# Altium schematic symbol library TLV2771CDBVR.SchLib: 2 symbols
Pins are listed as number, name and electrical type; pins without a type are passive.

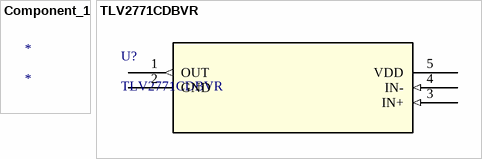
[diagram p0: symbols Component_1 to TLV2771CDBVR]

## Component_1
designator *

## TLV2771CDBVR
designator U?
No Description Available; Mfr_Name: Texas Instruments; Copyright: Copyright (C) 2022 Ultra Librarian. All rights reserved.; Manufacturer_Part_Number: TLV2771CDBVR; RefDes: RefDes; Type: DEV
footprint DBV5
pins: 1 OUT (out), 2 GND (power), 3 IN+ (in), 4 IN- (in), 5 VDD (power)